# Altium integrated library Capacitors.IntLib: 3 symbols
Pins are listed as number, name and electrical type; pins without a type are passive.

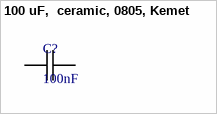
[diagram p0: symbol 100 uF,  ceramic, 0805, Kemet]

## 100 uF,  ceramic, 0805, Kemet
designator C?, comment 100nF
Ceramic condenser MLCC; 100nF; 25V; X7R; ±10%; SMD; 0805
footprint CAPC2013X09N (Chip Capacitor, 2-Leads, Body 2.00x1.30mm, IPC Medium Density)
pins: 1, 2


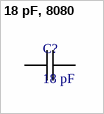
[diagram p1: symbol 18 pF, 8080]

## 18 pF, 8080
designator C?, comment 18 pF
Ceramic Capacitor; MLCC; 18pF; 50V; C0G; ±5%; SMD; 0805
footprint CAPC2012X08N (Chip Capacitor, 2-Leads, Body 2.00x1.25mm, IPC Medium Density)
pins: 1, 2


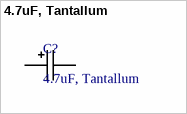
[diagram p2: symbol 4.7uF, Tantallum]

## 4.7uF, Tantallum
designator C?
4,7uF; 25VDC; SMD; Puzd: B; ±10%; -55÷125°C
footprint CAP body B (Molded Capacitor, 2-Leads, Body 3.50x2.80mm, IPC Medium Density)
pins: 1, 2